# EAGLE library part 428527420910 (library WS-ROTV)
WS-ROTV THT Rotary Switch with Shaft Type Actuator 10x10 mm Material Properties Cover Material : PA66 Packaging Properties Packaging :Tube Electrical Properties IR 1 :150 mA Properties Actuator Materia:POM Actuator Flammability Rating:UL94 HB Actuator Color:Dark Grey; Ivory Base Material:PA66 Base Flammability Rating:UL94 V-0 Terminal Plating:Gold Actuator Type:Shaft Type Washable:Yes Additional IR 1:150 mA Mechanical Properties Electrical Life：10000 Steps Actuator Type：Shaft Type Code：Complement Code; Real Code General Information Operating Temperature:-40 up to +85 °C Tableadditional Actuator Type：Shaft Type Washable：Yes <https://www.we-online.com/catalog/media/o61108v209%20Family_WS-ROTV_10x10mm_washable_THT_Rotary_Switch_4285274209xx.jpg> Details see: https://www.we-online.com/catalog/en/ROTV_10X10_WASHABLE_THT_SHAFT_TYPE/ Updated by yingchun,Shan;2020-02-24 2020(C) Würth Elektronik
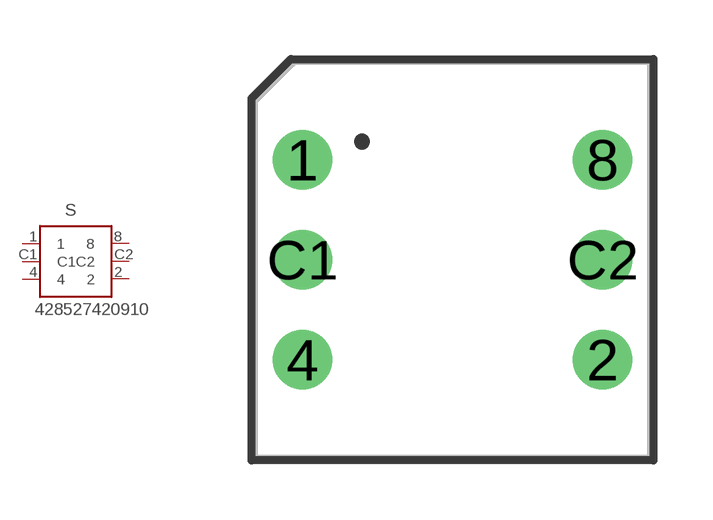
[diagram p3: symbol with the pads of 42852742091X_10POS; footprint 42852742091X_10POS]

Designator prefix S

## 428527420910 (DATASHEET-URL: https://www.we-online.com/redexpert/spec/428527420910?ae; NUMBER-OF-POSITION: 10; PART-NUMBER: 428527420910; QTY: 50)  [42852742091X_10POS]
1  1  pas
2  2  pas
4  4  pas
8  8  pas
C1  C1  pas
C2  C2  pas

## Footprint 42852742091X_10POS (pad centres in mm)
WS-ROTV THT Rotary Switch with Arrow Type Actuator 10x10 mm
drill 1: 1 -3.81,2.54; 2 3.81,-2.54; 4 -3.81,-2.54; 8 3.81,2.54; C1 -3.81,0; C2 3.81,0